# EAGLE library part 7-SEGMENT-DISPLAY (library Railstars)
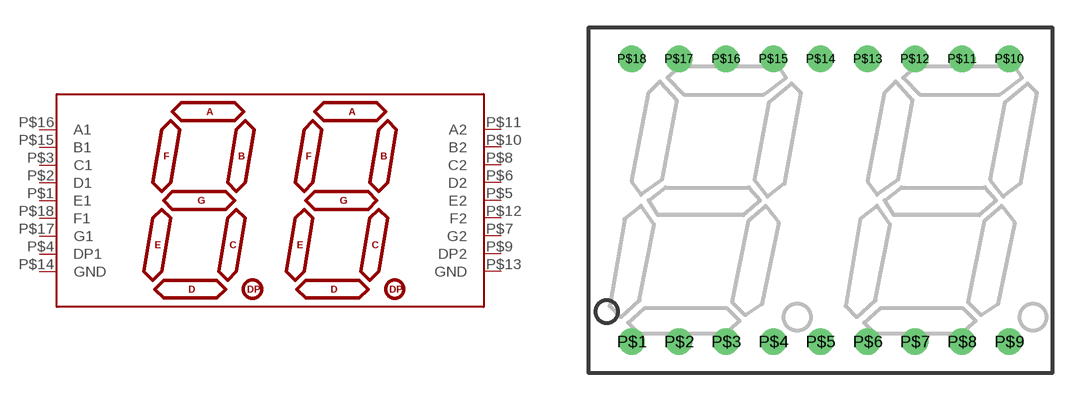
[diagram p4: symbol with the pads of 7-SEGMENT-DISPLAY; footprint 7-SEGMENT-DISPLAY]

Designator prefix -

## 7-SEGMENT-DISPLAY  [7-SEGMENT-DISPLAY]
P$1  E1
P$2  D1
P$3  C1
P$4  DP1
P$5  E2
P$6  D2
P$7  G2
P$8  C2
P$9  DP2
P$10  B2
P$11  A2
P$12  F2
P$13  GND
P$14  GND
P$15  B1
P$16  A1
P$17  G1
P$18  F1

## Footprint 7-SEGMENT-DISPLAY (pad centres in mm)
drill 0.8 pad 1.422: P$1 -10.16,-7.62; P$2 -7.62,-7.62; P$3 -5.08,-7.62; P$4 -2.54,-7.62; P$5 0,-7.62; P$6 2.54,-7.62; P$7 5.08,-7.62; P$8 7.62,-7.62; P$9 10.16,-7.62; P$10 10.16,7.62; P$11 7.62,7.62; P$12 5.08,7.62; P$13 2.54,7.62; P$14 0,7.62; P$15 -2.54,7.62; P$16 -5.08,7.62; P$17 -7.62,7.62; P$18 -10.16,7.62